# Altium schematic symbol library PMZ1200UPEYL.SchLib: 1 symbol
Pins are listed as number, name and electrical type; pins without a type are passive.

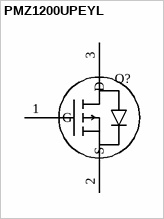
[diagram p0: symbol PMZ1200UPEYL]

## PMZ1200UPEYL
designator Q?
30 V P-channel Trench MOSFET, DFN1006-3 (SOT883); Manufacturer: Nexperia; MPN: PMZ1200UPEYL; Footprint: PMZ1200UPEYL:DFN1006-3_SOT883; Datasheet: https://assets.nexperia.com/documents/data-sheet/PMZ1200UPE.pdf
pins: 1 G, 2 S, 3 D